# EAGLE library part LM5050 (library LM5050)
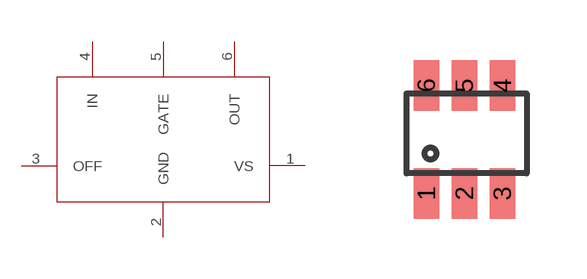
[diagram p0: symbol with the pads of LM5050; footprint LM5050]

Designator prefix -

## LM5050  [LM5050]
1  VS
2  GND
3  OFF
4  IN
5  GATE
6  OUT

## Footprint LM5050 (pad centres in mm)
smd 0.635 x 1.27: 1 0,0; 2 0.95,0; 3 1.9,0; 4 1.9,2.7; 5 0.95,2.7; 6 0,2.7